# Altium schematic symbol library Memory.SchLib: 1 symbol
Pins are listed as number, name and electrical type; pins without a type are passive.

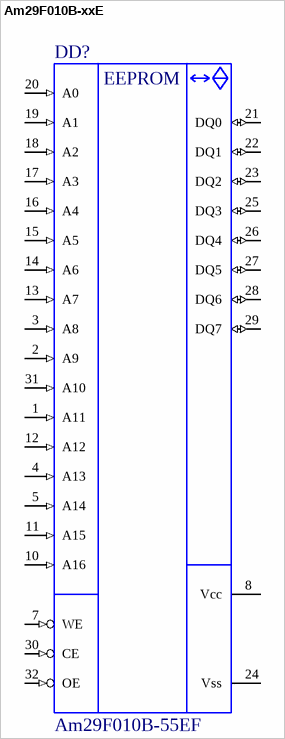
[diagram p0: symbol Am29F010B-xxE]

## Am29F010B-xxE
designator DD?, comment Am29F010B-55EF
128Kx8 Flash memory; ValueSch: Am29F010B-55EF
pins: 1 A11 (in), 2 A9 (in) "A11", 3 A8 (in), 4 A13 (in), 5 A14 (in), 6 NC hidden "Not connected", 7 WE (in) "Write enable negative", 8 Vcc (power) "Power supply", 9 NC hidden "Not connected", 10 A16 (in), 11 A15 (in), 12 A12 (in), 13 A7 (in), 14 A6 (in), 15 A5 (in), 16 A4 (in), 17 A3 (in), 18 A2 (in), 19 A1 (in), 20 A0 (in), 21 DQ0 (io) "Data 0", 22 DQ1 (io) "Data 0", 23 DQ2 (io) "Data 0", 24 Vss (power) "Power supply", 25 DQ3 (io) "Data 3", 26 DQ4 (io) "Data 3", 27 DQ5 (io) "Data 3", 28 DQ6 (io) "Data 3", 29 DQ7 (io) "Data 3", 30 CE (in) "Chip Enable inv", 31 A10 (in), 32 OE (in) "Output enable inv"
text: EEPROM